# EAGLE library part 2450AT44A100 (library my_components)
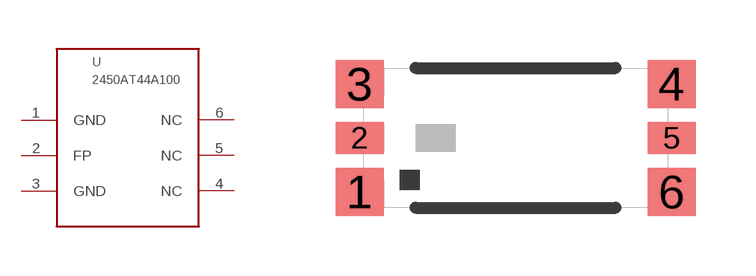
[diagram p3: symbol with the pads of JOHANSON_ANT_2450AT44A100; footprint JOHANSON_ANT_2450AT44A100]

Designator prefix -

## 2450AT44A100  [JOHANSON_ANT_2450AT44A100]
1  GND
2  FP
3  GND
4  NC  nc
5  NC  nc
6  NC  nc

## Footprint JOHANSON_ANT_2450AT44A100 (pad centres in mm)
smd 1.2 x 1.2: 1 -3.9,-1.35; 3 -3.9,1.35; 4 3.9,1.35; 6 3.9,-1.35
smd 1.2 x 0.8: 2 -3.9,0; 5 3.9,0